# Altium footprint library STM32.PcbLib: 4 footprints
Each footprint in its own frame and in the unit in brackets; x right, y up, seen from the top. Pads: shape width x height; smd on the part's side, far side on the other; paste and mask are expansions set on the pad; w line width, h text height; cw(c..) or ccw(c..) is an arc to the next point about the centre after c.
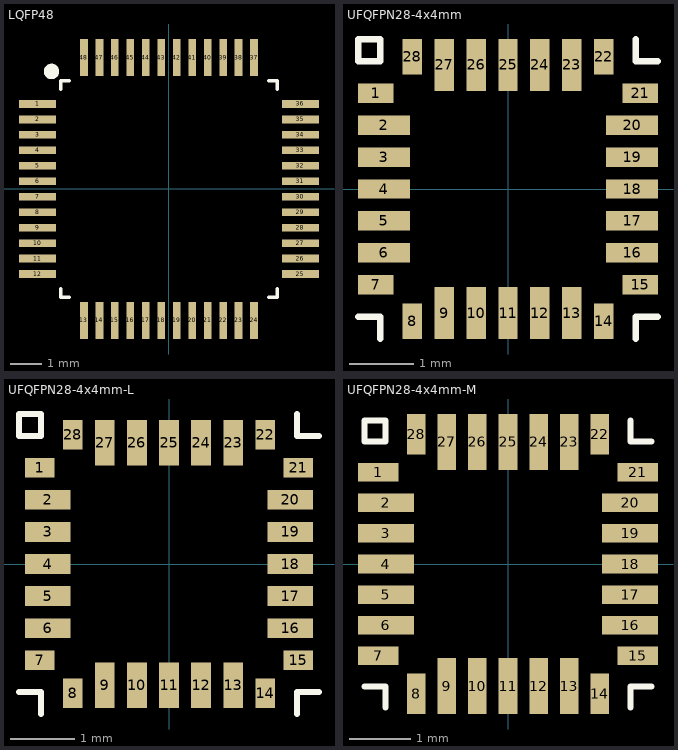
[diagram p0: the footprints below, top view; thin cyan lines are the x and y axes]

## LQFP48 [mm]
height 1.6
pads (48):
  rect 1.2x0.25 smd: 1(-4.25,2.75) 2(-4.25,2.25) 3(-4.25,1.75) 4(-4.25,1.25) 5(-4.25,0.75) 6(-4.25,0.25) 7(-4.25,-0.25) 8(-4.25,-0.75) 9(-4.25,-1.25) 10(-4.25,-1.75) 11(-4.25,-2.25) 12(-4.25,-2.75) 25(4.25,-2.75) 26(4.25,-2.25) 27(4.25,-1.75) 28(4.25,-1.25) 29(4.25,-0.75) 30(4.25,-0.25) 31(4.25,0.25) 32(4.25,0.75) 33(4.25,1.25) 34(4.25,1.75) 35(4.25,2.25) 36(4.25,2.75)
  rect 0.25x1.2 smd: 13(-2.75,-4.25) 14(-2.25,-4.25) 15(-1.75,-4.25) 16(-1.25,-4.25) 17(-0.75,-4.25) 18(-0.25,-4.25) 19(0.25,-4.25) 20(0.75,-4.25) 21(1.25,-4.25) 22(1.75,-4.25) 23(2.25,-4.25) 24(2.75,-4.25) 37(2.75,4.25) 38(2.25,4.25) 39(1.75,4.25) 40(1.25,4.25) 41(0.75,4.25) 42(0.25,4.25) 43(-0.25,4.25) 44(-0.75,4.25) 45(-1.25,4.25) 46(-1.75,4.25) 47(-2.25,4.25) 48(-2.75,4.25)
Top Overlay:
  circle w0.25: c-3.8,3.8 r0.125
  lines w0.1: -3.5,-3.226 -3.5,-3.5 -3.226,-3.5 ; -3.5,3.226 -3.5,3.5 -3.226,3.5 ; 3.226,-3.5 3.5,-3.5 3.5,-3.226 ; 3.226,3.5 3.5,3.5 3.5,3.226

## UFQFPN28-4x4mm [mil]
pads (28):
  rect 22x12 smd paste-6: 1(-81.5,59.06) 7(-81.5,-59.06) 15(81.5,-59.06) 21(81.5,59.06)
  rect 32x12 smd: 2(-76.5,39.37) 3(-76.5,19.68) 4(-76.5,0) 5(-76.5,-19.68) 6(-76.5,-39.37) 16(76.5,-39.37) 17(76.5,-19.68) 18(76.5,0) 19(76.5,19.68) 20(76.5,39.37)
  rect 12x22 smd paste-6: 8(-59.06,-81.5) 14(59.06,-81.5) 22(59.06,81.5) 28(-59.06,81.5)
  rect 12x32 smd: 9(-39.37,-76.5) 10(-19.68,-76.5) 11(0,-76.5) 12(19.68,-76.5) 13(39.37,-76.5) 23(39.37,76.5) 24(19.68,76.5) 25(0,76.5) 26(-19.68,76.5) 27(-39.37,76.5)
Top Overlay:
  lines w3.94: -92.26,-78.74 -78.74,-78.74 -78.74,-92.26 ; 78.74,-92.26 78.74,-78.74 92.26,-78.74 ; 78.74,92.26 78.74,78.74 92.26,78.74 ; -92.26,78.74 -92.26,92.26 -78.74,92.26 -78.74,78.74 -92.26,78.74

## UFQFPN28-4x4mm-L [mil]
pads (28):
  rect 18x12 smd: 1(-79.5,59.06) 7(-79.5,-59.06) 15(79.5,-59.06) 21(79.5,59.06)
  rect 28x12 smd: 2(-74.5,39.37) 3(-74.5,19.68) 4(-74.5,0) 5(-74.5,-19.68) 6(-74.5,-39.37) 16(74.5,-39.37) 17(74.5,-19.68) 18(74.5,0) 19(74.5,19.68) 20(74.5,39.37)
  rect 12x18 smd: 8(-59.06,-79.5) 14(59.06,-79.5) 22(59.06,79.5) 28(-59.06,79.5)
  rect 12x28 smd: 9(-39.37,-74.5) 10(-19.68,-74.5) 11(0,-74.5) 12(19.68,-74.5) 13(39.37,-74.5) 23(39.37,74.5) 24(19.68,74.5) 25(0,74.5) 26(-19.68,74.5) 27(-39.37,74.5)
Top Overlay:
  lines w3.94: -92.26,-78.74 -78.74,-78.74 -78.74,-92.26 ; 78.74,-92.26 78.74,-78.74 92.26,-78.74 ; 78.74,92.26 78.74,78.74 92.26,78.74 ; -92.26,78.74 -78.74,78.74 -78.74,92.26 -92.26,92.26 -92.26,78.74

## UFQFPN28-4x4mm-M [mil]
pads (28):
  rect 26x12 smd: 1(-83.5,59.06) 7(-83.5,-59.06) 15(83.5,-59.06) 21(83.5,59.06)
  rect 36x12 smd: 2(-78.5,39.37) 3(-78.5,19.68) 4(-78.5,0) 5(-78.5,-19.68) 6(-78.5,-39.37) 16(78.5,-39.37) 17(78.5,-19.68) 18(78.5,0) 19(78.5,19.68) 20(78.5,39.37)
  rect 12x26 smd: 8(-59.06,-83.5) 14(59.06,-83.5) 22(59.06,83.5) 28(-59.06,83.5)
  rect 12x36 smd: 9(-39.37,-78.5) 10(-19.68,-78.5) 11(0,-78.5) 12(19.68,-78.5) 13(39.37,-78.5) 23(39.37,78.5) 24(19.68,78.5) 25(0,78.5) 26(-19.68,78.5) 27(-39.37,78.5)
Top Overlay:
  lines w3.94: -92.26,-78.74 -78.74,-78.74 -78.74,-92.26 ; 78.74,-92.26 78.74,-78.74 92.26,-78.74 ; 78.74,92.26 78.74,78.74 92.26,78.74 ; -92.26,78.74 -78.74,78.74 -78.74,92.26 -92.26,92.26 -92.26,78.74